# Altium schematic symbol library SamacSys.SchLib: 17 symbols
Pins are listed as number, name and electrical type; pins without a type are passive.

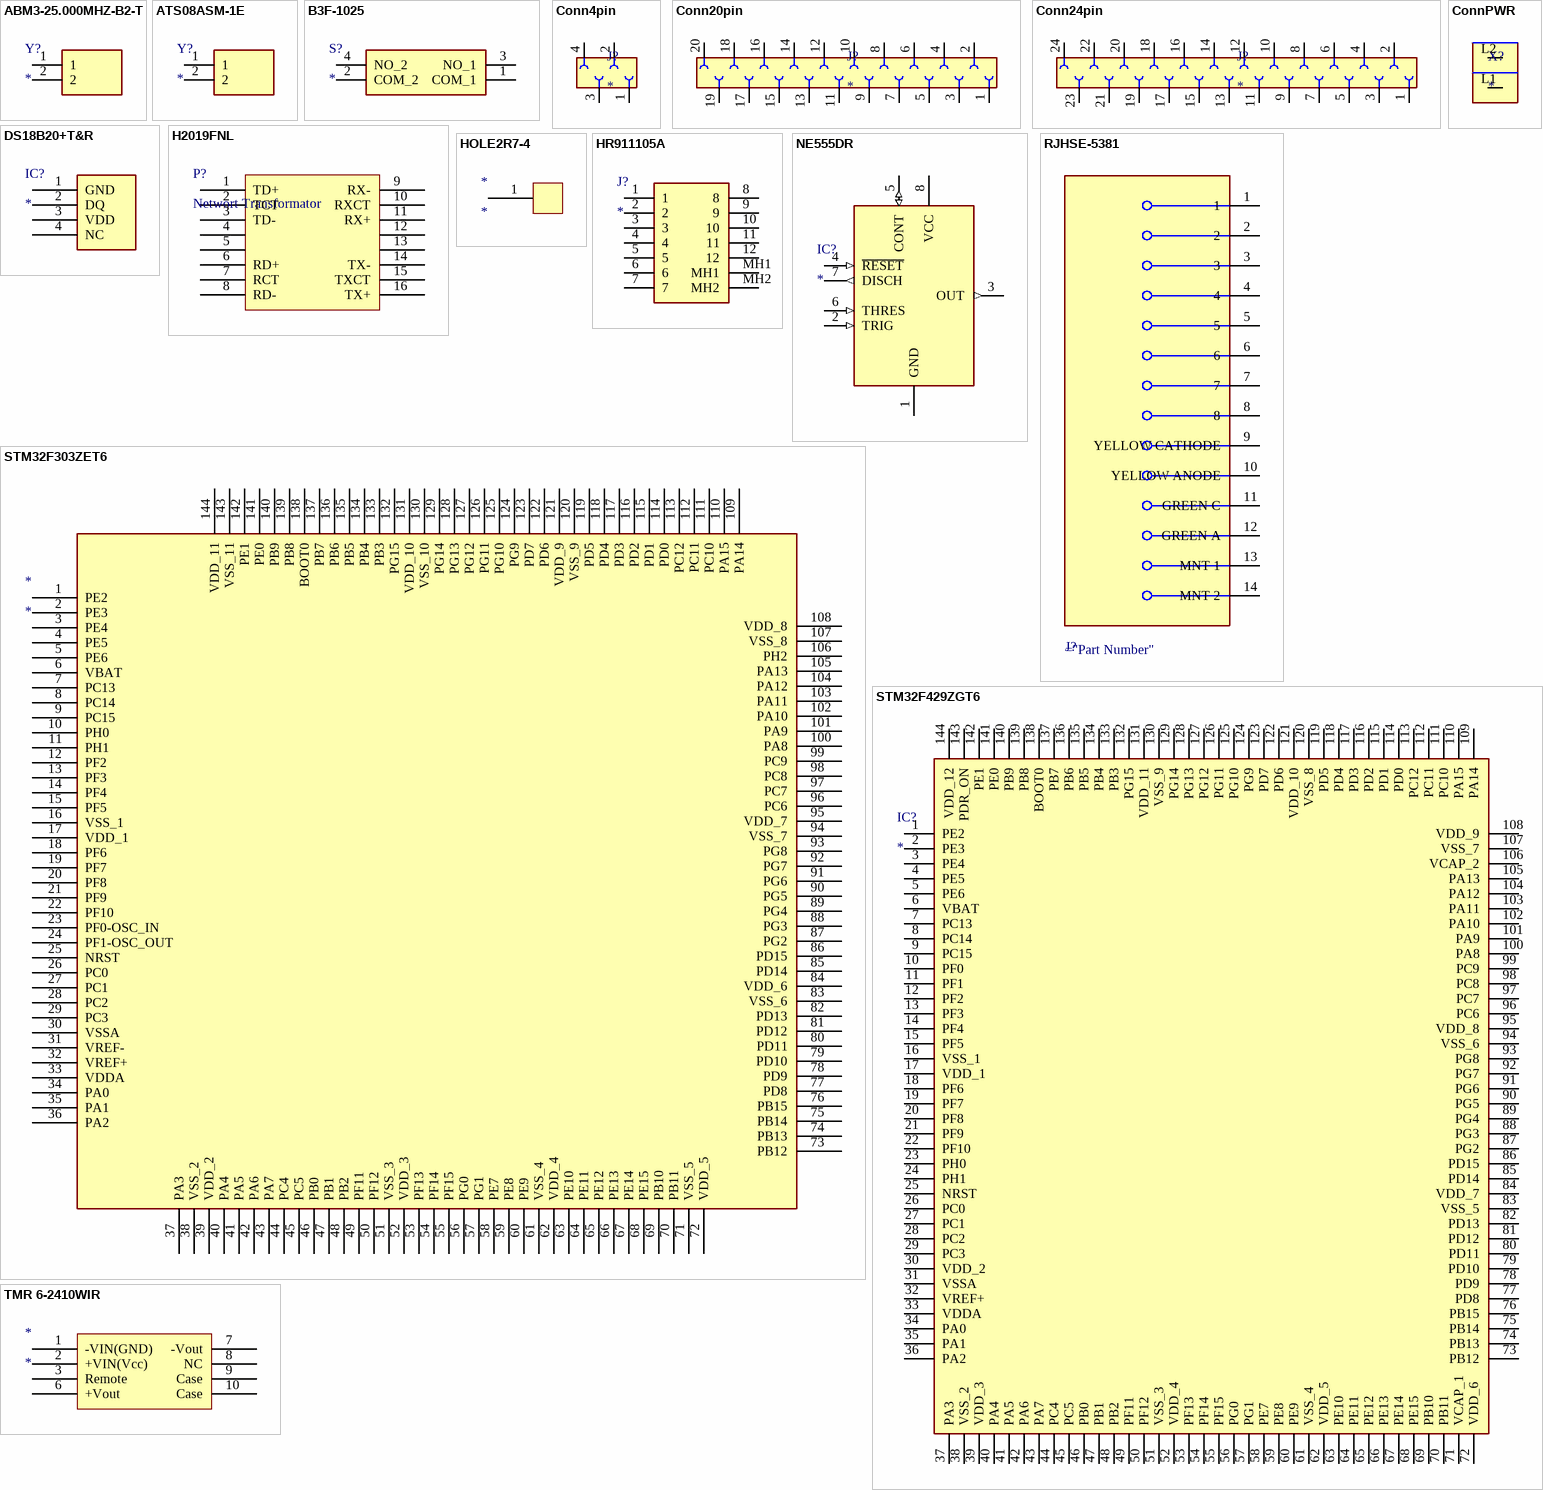
[diagram p0: symbols ABM3-25.000MHZ-B2-T to TMR 6-2410WIR]

## ABM3-25.000MHZ-B2-T
designator Y?
Crystal or Oscillator; Manufacturer_Name: ABRACON; Manufacturer_Part_Number: ABM3-25.000MHZ-B2-T; Datasheet Link: https://datasheet.datasheetarchive.com/originals/distributors/SFDatasheet-0/sf-000246.pdf; Height: 1.3mm; Mouser Part Number: 815-ABM3-25-B2-T; Mouser Price/Stock: https://www.mouser.co.uk/ProductDetail/ABRACON/ABM3-25000MHZ-B2-T?qs=GgB7MJ%2FTIsQBQ7HNZGW3Hg%3D%3D; Arrow Part Number: ABM3-25.000MHZ-B2-T; Arrow Price/Stock: https://www.arrow.com/en/products/abm3-25.000mhz-b2-t/abracon
footprint ABM325000MHZB2T
pins: 1, 2

## ATS08ASM-1E
designator Y?
Crystal or Oscillator; Manufacturer_Name: CTS; Manufacturer_Part_Number: ATS08ASM-1E; Datasheet Link: https://www.ctscorp.com/wp-content/uploads/ATS-ATSSM.pdf; Height: 4.3mm; Mouser Part Number: 774-ATS08ASM-1E; Mouser Price/Stock: https://www.mouser.co.uk/ProductDetail/CTS-Electronic-Components/ATS08ASM-1E/?qs=tjlMjqRIEYSoOC%2FyJ4%2Frjw%3D%3D; Arrow Part Number: ATS08ASM-1E; Arrow Price/Stock: https://www.arrow.com/en/products/ats08asm-1e/cts
footprint ATS040SM1
pins: 1, 2

## B3F-1025
designator S?
Switch; Manufacturer_Name: Omron Electronics; Manufacturer_Part_Number: B3F-1025; Datasheet Link: http://uk.rs-online.com/web/p/products/6821140; Height: 5.2mm; Mouser Part Number: 653-B3F-1025; Mouser Price/Stock: https://www.mouser.co.uk/ProductDetail/Omron-Electronics/B3F-1025?qs=1tDaWCEHQQ7ZoQQuZXPfLw%3D%3D
footprint B3F1025
pins: 1 COM_1, 2 COM_2, 3 NO_1, 4 NO_2

## Conn4pin
designator J?
CONN RCPT 4POS 0.1 TIN SMD; MF: WÃ¼rth Elektronik; MP: 690367290476; Check_prices: https://www.snapeda.com/parts/690367290476/W%C3%BCrth%20Elektronik/view-part/4806817/?ref=eda; Price: None; SnapEDA_Link: https://www.snapeda.com/parts/690367290476/W%C3%BCrth%20Elektronik/view-part/4806817/?ref=snap; Value: *; Availability: Warning; Package: None; Purchase-URL: https://pricing.snapeda.com/search/part/690367290476/?ref=eda
footprint 690367290476
pins: 1, 2, 3, 4

## Conn20pin
designator J?
CONN RCPT 20POS 0.1 TIN SMD; MF: WÃ¼rth Elektronik; MP: 690367292076; Package: None; Purchase-URL: https://pricing.snapeda.com/search/part/690367292076/?ref=eda; Value: *; Availability: Warning; SnapEDA_Link: https://www.snapeda.com/parts/690367292076/W%C3%BCrth%20Elektronik/view-part/4804579/?ref=snap; Price: None; Check_prices: https://www.snapeda.com/parts/690367292076/W%C3%BCrth%20Elektronik/view-part/4804579/?ref=eda
footprint 690367292076
pins: 1, 2, 3, 4, 5, 6, 7, 8, 9, 10, 11, 12, 13, 14, 15, 16, 17, 18, 19, 20

## Conn24pin
designator J?
Female header Temperature range: -40 ... +105 Â°C Colour: Red Connector Design: With Latch / With Polarization / Straight Connector Termination: SMD Contact material: Tin-Plated Phosphor Bronze Gender of contacts: Female Housing Material: Polyamide (PA 6T) Pitch: 2.54 mm / 1.27 mm Series: WR-MM Poles: 24 Rated current: 1.5 A Rated voltage: 100 VAC; MF: WÃ¼rth Elektronik; MP: 690367292476; SnapEDA_Link: https://www.snapeda.com/parts/690367292476/W%C3%BCrth%20Elektronik/view-part/1737021/?ref=snap; Package: None; Purchase-URL: https://pricing.snapeda.com/search/part/690367292476/?ref=eda; Price: None; Value: *; Check_prices: https://www.snapeda.com/parts/690367292476/W%C3%BCrth%20Elektronik/view-part/1737021/?ref=eda; Availability: Warning
footprint 690367292476
pins: 1, 2, 3, 4, 5, 6, 7, 8, 9, 10, 11, 12, 13, 14, 15, 16, 17, 18, 19, 20, 21, 22, 23, 24

## ConnPWR
designator X?
Connector picoMAX 3.5 M 2P, PCB horizontal; MF: WAGO; MP: 2091-1422; Value: *; Package: None; Check_prices: https://www.snapeda.com/parts/2091-1422/WAGO/view-part/633314/?ref=eda; Price: None; Availability: Warning; SnapEDA_Link: https://www.snapeda.com/parts/2091-1422/WAGO/view-part/633314/?ref=snap
footprint P-2091-1422
pins: L1 P1 (io), L2 P2 (io)

## DS18B20+T&R
designator IC?
Integrated Circuit; Manufacturer_Name: Maxim Integrated; Manufacturer_Part_Number: DS18B20+T&R; Datasheet Link: https://componentsearchengine.com/Datasheets/1/DS18B20+T&R.pdf; Height: 10.41mm; Mouser Part Number: 700-DS18B20T&R; Mouser Price/Stock: https://www.mouser.co.uk/ProductDetail/Maxim-Integrated/DS18B20%2bTR/?qs=7H2Jq%252ByxpJKpIDCbiq4lfg%3D%3D
footprint DS18B20TR
pins: 1 GND, 2 DQ, 3 VDD, 4 NC

## H2019FNL
designator P?, comment Networt Transformator
footprint H2019FNL
pins: 1 TD+, 2 TCT, 3 TD-, 4, 5, 6 RD+, 7 RCT, 8 RD-, 9 RX-, 10 RXCT, 11 RX+, 12, 13, 14 TX-, 15 TXCT, 16 TX+

## HOLE2R7-4
designator *
Hole
footprint HOLE2R7-4
pins: 1

## HR911105A
designator J?
Connector; Manufacturer_Name: Hanrun Electronics; Manufacturer_Part_Number: HR911105A; Datasheet Link: https://datasheet.lcsc.com/szlcsc/Zhongshan-HanRun-Elec-HR911105A_C12074.pdf; Height: 13.75mm
footprint HR911105A
pins: 1, 2, 3, 4, 5, 6, 7, 8, 9, 10, 11, 12, MH1, MH2

## NE555DR
designator IC?
Integrated Circuit; Manufacturer_Name: Texas Instruments; Manufacturer_Part_Number: NE555DR; Datasheet Link: http://www.ti.com/lit/ds/symlink/ne555.pdf; Height: 1.75mm; Mouser Part Number: 595-NE555DR; Mouser Price/Stock: https://www.mouser.com/Search/Refine.aspx?Keyword=595-NE555DR; RS Part Number: 1218414; RS Price/Stock: http://uk.rs-online.com/web/p/products/1218414
footprint SOIC127P600X175-8N
pins: 1 GND (power), 2 TRIG (in), 3 OUT (out), 4 ~{RESET} (in), 5 CONT (io), 6 THRES (in), 7 DISCH (out), 8 VCC (power)

## RJHSE-5381
designator J?, comment RJ45  (value not drawn)
footprint RJHSE5381
pins: 1, 2, 3, 4, 5, 6, 7, 8, 9 YELLOW CATHODE, 10 YELLOW ANODE, 11 GREEN C, 12 GREEN A, 13 MNT 1, 14 MNT 2

## STM32F303ZET6
designator *
stm32F303
footprint f303QFP50P2200X2200X160-144N
pins: 1 PE2, 2 PE3, 3 PE4, 4 PE5, 5 PE6, 6 VBAT, 7 PC13, 8 PC14, 9 PC15, 10 PH0, 11 PH1, 12 PF2, 13 PF3, 14 PF4, 15 PF5, 16 VSS_1, 17 VDD_1, 18 PF6, 19 PF7, 20 PF8, 21 PF9, 22 PF10, 23 PF0-OSC_IN, 24 PF1-OSC_OUT, 25 NRST, 26 PC0, 27 PC1, 28 PC2, 29 PC3, 30 VSSA, 31 VREF-, 32 VREF+, 33 VDDA, 34 PA0, 35 PA1, 36 PA2, 37 PA3, 38 VSS_2, 39 VDD_2, 40 PA4, 41 PA5, 42 PA6, 43 PA7, 44 PC4, 45 PC5, 46 PB0, 47 PB1, 48 PB2, 49 PF11, 50 PF12, 51 VSS_3, 52 VDD_3, 53 PF13, 54 PF14, 55 PF15, 56 PG0, 57 PG1, 58 PE7, 59 PE8, 60 PE9, 61 VSS_4, 62 VDD_4, 63 PE10, 64 PE11, 65 PE12, 66 PE13, 67 PE14, 68 PE15, 69 PB10, 70 PB11, 71 VSS_5, 72 VDD_5, 73 PB12, 74 PB13, 75 PB14, 76 PB15, 77 PD8, 78 PD9, 79 PD10, 80 PD11, 81 PD12, 82 PD13, 83 VSS_6, 84 VDD_6, 85 PD14, 86 PD15, 87 PG2, 88 PG3, 89 PG4, 90 PG5, 91 PG6, 92 PG7, 93 PG8, 94 VSS_7, 95 VDD_7, 96 PC6, 97 PC7, 98 PC8, 99 PC9, 100 PA8, 101 PA9, 102 PA10, 103 PA11, 104 PA12, 105 PA13, 106 PH2, 107 VSS_8, 108 VDD_8, 109 PA14, 110 PA15, 111 PC10, 112 PC11, 113 PC12, 114 PD0, 115 PD1, 116 PD2, 117 PD3, 118 PD4, 119 PD5, 120 VSS_9, 121 VDD_9, 122 PD6, 123 PD7, 124 PG9, 125 PG10, 126 PG11, 127 PG12, 128 PG13, 129 PG14, 130 VSS_10, 131 VDD_10, 132 PG15, 133 PB3, 134 PB4, 135 PB5, 136 PB6, 137 PB7, 138 BOOT0, 139 PB8, 140 PB9, 141 PE0, 142 PE1, 143 VSS_11, 144 VDD_11

## STM32F429ZGT6
designator IC?
Integrated Circuit; Manufacturer_Name: STMicroelectronics; Manufacturer_Part_Number: STM32F429ZGT6; Datasheet Link: http://www.st.com/web/en/resource/technical/document/datasheet/DM00071990.pdf; Height: 1.6mm; Mouser Part Number: 511-STM32F429ZGT6; Mouser Price/Stock: https://www.mouser.co.uk/ProductDetail/STMicroelectronics/STM32F429ZGT6?qs=DqCdCwOw4%2F61O51evUvYMQ%3D%3D; Arrow Part Number: STM32F429ZGT6; Arrow Price/Stock: https://www.arrow.com/en/products/stm32f429zgt6/stmicroelectronics
footprint QFP50P2200X2200X160-144N
pins: 1 PE2, 2 PE3, 3 PE4, 4 PE5, 5 PE6, 6 VBAT, 7 PC13, 8 PC14, 9 PC15, 10 PF0, 11 PF1, 12 PF2, 13 PF3, 14 PF4, 15 PF5, 16 VSS_1, 17 VDD_1, 18 PF6, 19 PF7, 20 PF8, 21 PF9, 22 PF10, 23 PH0, 24 PH1, 25 NRST, 26 PC0, 27 PC1, 28 PC2, 29 PC3, 30 VDD_2, 31 VSSA, 32 VREF+, 33 VDDA, 34 PA0, 35 PA1, 36 PA2, 37 PA3, 38 VSS_2, 39 VDD_3, 40 PA4, 41 PA5, 42 PA6, 43 PA7, 44 PC4, 45 PC5, 46 PB0, 47 PB1, 48 PB2, 49 PF11, 50 PF12, 51 VSS_3, 52 VDD_4, 53 PF13, 54 PF14, 55 PF15, 56 PG0, 57 PG1, 58 PE7, 59 PE8, 60 PE9, 61 VSS_4, 62 VDD_5, 63 PE10, 64 PE11, 65 PE12, 66 PE13, 67 PE14, 68 PE15, 69 PB10, 70 PB11, 71 VCAP_1, 72 VDD_6, 73 PB12, 74 PB13, 75 PB14, 76 PB15, 77 PD8, 78 PD9, 79 PD10, 80 PD11, 81 PD12, 82 PD13, 83 VSS_5, 84 VDD_7, 85 PD14, 86 PD15, 87 PG2, 88 PG3, 89 PG4, 90 PG5, 91 PG6, 92 PG7, 93 PG8, 94 VSS_6, 95 VDD_8, 96 PC6, 97 PC7, 98 PC8, 99 PC9, 100 PA8, 101 PA9, 102 PA10, 103 PA11, 104 PA12, 105 PA13, 106 VCAP_2, 107 VSS_7, 108 VDD_9, 109 PA14, 110 PA15, 111 PC10, 112 PC11, 113 PC12, 114 PD0, 115 PD1, 116 PD2, 117 PD3, 118 PD4, 119 PD5, 120 VSS_8, 121 VDD_10, 122 PD6, 123 PD7, 124 PG9, 125 PG10, 126 PG11, 127 PG12, 128 PG13, 129 PG14, 130 VSS_9, 131 VDD_11, 132 PG15, 133 PB3, 134 PB4, 135 PB5, 136 PB6, 137 PB7, 138 BOOT0, 139 PB8, 140 PB9, 141 PE0, 142 PE1, 143 PDR_ON, 144 VDD_12

## TMR 6-2410WIR
designator *
DCDC Wandler
pins: 1 -VIN(GND) (power), 2 +VIN(Vcc) (power), 3 Remote (power), 6 +Vout (power), 7 -Vout (power), 8 NC (power), 9 Case (power), 10 Case (power)

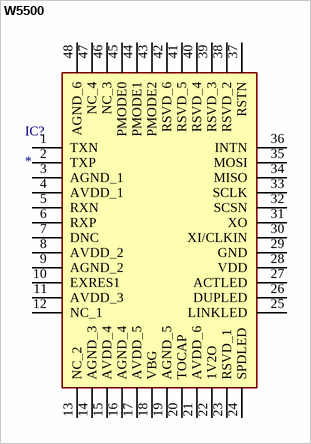
[diagram p1: symbol W5500]

## W5500
designator IC?
Integrated Circuit; Manufacturer_Name: Wiznet Technology; Manufacturer_Part_Number: W5500; Datasheet Link: https://www.arrow.com/en/products/w5500/wiznet; Height: 1.6mm; Arrow Part Number: W5500; Arrow Price/Stock: https://www.arrow.com/en/products/w5500/wiznet
footprint QFP50P900X900X160-48N
pins: 1 TXN, 2 TXP, 3 AGND_1, 4 AVDD_1, 5 RXN, 6 RXP, 7 DNC, 8 AVDD_2, 9 AGND_2, 10 EXRES1, 11 AVDD_3, 12 NC_1, 13 NC_2, 14 AGND_3, 15 AVDD_4, 16 AGND_4, 17 AVDD_5, 18 VBG, 19 AGND_5, 20 TOCAP, 21 AVDD_6, 22 1V2O, 23 RSVD_1, 24 SPDLED, 25 LINKLED, 26 DUPLED, 27 ACTLED, 28 VDD, 29 GND, 30 XI/CLKIN, 31 XO, 32 SCSN, 33 SCLK, 34 MISO, 35 MOSI, 36 INTN, 37 RSTN, 38 RSVD_2, 39 RSVD_3, 40 RSVD_4, 41 RSVD_5, 42 RSVD_6, 43 PMODE2, 44 PMODE1, 45 PMODE0, 46 NC_3, 47 NC_4, 48 AGND_6